# EAGLE library part STM32F103 (library FiveVolt)
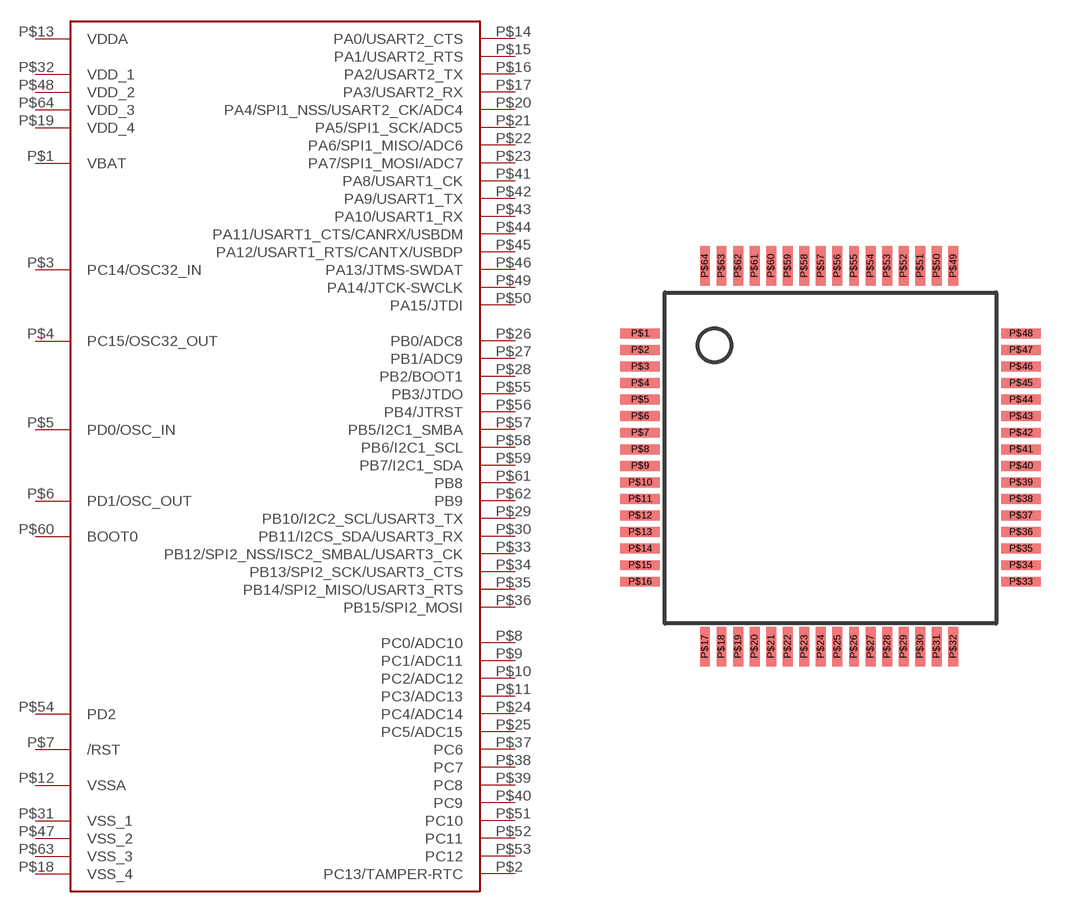
[diagram p11: symbol with the pads of TQFP-10X10-64; footprint TQFP-10X10-64]

Designator prefix -

## STM32F103  [TQFP-10X10-64]
P$1  VBAT
P$2  PC13/TAMPER-RTC
P$3  PC14/OSC32_IN
P$4  PC15/OSC32_OUT
P$5  PD0/OSC_IN
P$6  PD1/OSC_OUT
P$7  /RST
P$8  PC0/ADC10
P$9  PC1/ADC11
P$10  PC2/ADC12
P$11  PC3/ADC13
P$12  VSSA
P$13  VDDA
P$14  PA0/USART2_CTS
P$15  PA1/USART2_RTS
P$16  PA2/USART2_TX
P$17  PA3/USART2_RX
P$18  VSS_4
P$19  VDD_4
P$20  PA4/SPI1_NSS/USART2_CK/ADC4
P$21  PA5/SPI1_SCK/ADC5
P$22  PA6/SPI1_MISO/ADC6
P$23  PA7/SPI1_MOSI/ADC7
P$24  PC4/ADC14
P$25  PC5/ADC15
P$26  PB0/ADC8
P$27  PB1/ADC9
P$28  PB2/BOOT1
P$29  PB10/I2C2_SCL/USART3_TX
P$30  PB11/I2CS_SDA/USART3_RX
P$31  VSS_1
P$32  VDD_1
P$33  PB12/SPI2_NSS/ISC2_SMBAL/USART3_CK
P$34  PB13/SPI2_SCK/USART3_CTS
P$35  PB14/SPI2_MISO/USART3_RTS
P$36  PB15/SPI2_MOSI
P$37  PC6
P$38  PC7
P$39  PC8
P$40  PC9
P$41  PA8/USART1_CK
P$42  PA9/USART1_TX
P$43  PA10/USART1_RX
P$44  PA11/USART1_CTS/CANRX/USBDM
P$45  PA12/USART1_RTS/CANTX/USBDP
P$46  PA13/JTMS-SWDAT
P$47  VSS_2
P$48  VDD_2
P$49  PA14/JTCK-SWCLK
P$50  PA15/JTDI
P$51  PC10
P$52  PC11
P$53  PC12
P$54  PD2
P$55  PB3/JTDO
P$56  PB4/JTRST
P$57  PB5/I2C1_SMBA
P$58  PB6/I2C1_SCL
P$59  PB7/I2C1_SDA
P$60  BOOT0
P$61  PB8
P$62  PB9
P$63  VSS_3
P$64  VDD_3

## Footprint TQFP-10X10-64 (pad centres in mm)
smd 1.2 x 0.3: P$1 -5.75,3.71; P$2 -5.75,3.21; P$3 -5.75,2.71; P$4 -5.75,2.21; P$5 -5.75,1.71; P$6 -5.75,1.21; P$7 -5.75,0.71; P$8 -5.75,0.21; P$9 -5.75,-0.29; P$10 -5.75,-0.79; P$11 -5.75,-1.29; P$12 -5.75,-1.79; P$13 -5.75,-2.29; P$14 -5.75,-2.79; P$15 -5.75,-3.29; P$16 -5.75,-3.79; P$33 5.75,-3.79; P$34 5.75,-3.29; P$35 5.75,-2.79; P$36 5.75,-2.29; P$37 5.75,-1.79; P$38 5.75,-1.29; P$39 5.75,-0.79; P$40 5.75,-0.29; P$41 5.75,0.21; P$42 5.75,0.71; P$43 5.75,1.21; P$44 5.75,1.71; P$45 5.75,2.21; P$46 5.75,2.71; P$47 5.75,3.21; P$48 5.75,3.71
smd 0.3 x 1.2: P$17 -3.79,-5.75; P$18 -3.29,-5.75; P$19 -2.79,-5.75; P$20 -2.29,-5.75; P$21 -1.79,-5.75; P$22 -1.29,-5.75; P$23 -0.79,-5.75; P$24 -0.29,-5.75; P$25 0.21,-5.75; P$26 0.71,-5.75; P$27 1.21,-5.75; P$28 1.71,-5.75; P$29 2.21,-5.75; P$30 2.71,-5.75; P$31 3.21,-5.75; P$32 3.71,-5.75; P$49 3.71,5.75; P$50 3.21,5.75; P$51 2.71,5.75; P$52 2.21,5.75; P$53 1.71,5.75; P$54 1.21,5.75; P$55 0.71,5.75; P$56 0.21,5.75; P$57 -0.29,5.75; P$58 -0.79,5.75; P$59 -1.29,5.75; P$60 -1.79,5.75; P$61 -2.29,5.75; P$62 -2.79,5.75; P$63 -3.29,5.75; P$64 -3.79,5.75